# EAGLE library part TPS51396ARJER (library TPS51396ARJER)
Buck Switching Regulator IC Positive Adjustable 0.6V 1 Output 8A 20-VFQFN Exposed Pad Source: Datasheet <https://www.ti.com/lit/ds/symlink/tps51396a.pdf?HQS=dis-mous-null-mousermode-dsf-pf-null-wwe&ts=1662566370253&ref_url=https%3A%2F%2Fwww.mouser.in%2F>
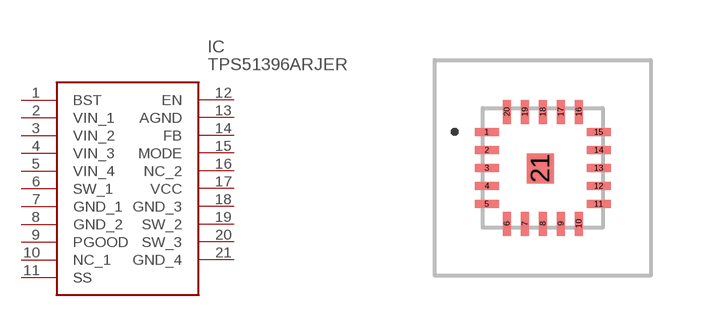
[diagram p0: symbol with the pads of TPS51396ARJER; footprint TPS51396ARJER]

Designator prefix IC

## TPS51396ARJER (Description: Buck Switching Regulator IC Positive Adjustable 0.6V 1 Output 8A 20-VFQFN Exposed Pad; Height: 1mm; Manufacturer_Name: Texas Instruments; Manufacturer_Part_Number: TPS51396ARJER; Mouser_Part_Number: 595-TPS51396ARJER; Mouser_Price-Stock: https://www.mouser.co.uk/ProductDetail/Texas-Instruments/TPS51396ARJER?qs=GBLSl2AkirtKr8QWcQ0Vig%3D%3D)  [TPS51396ARJER]
1  BST
2  VIN_1
3  VIN_2
4  VIN_3
5  VIN_4
6  SW_1
7  GND_1
8  GND_2
9  PGOOD
10  NC_1
11  SS
12  EN
13  AGND
14  FB
15  MODE
16  NC_2
17  VCC
18  GND_3
19  SW_2
20  SW_3
21  GND_4

## Footprint TPS51396ARJER (pad centres in mm)
RJE0020A_2022
smd 0.6 x 0.2: 1 -1.4,0.9; 2 -1.4,0.45; 3 -1.4,0; 4 -1.4,-0.45; 5 -1.4,-0.9; 11 1.4,-0.9; 12 1.4,-0.45; 13 1.4,0; 14 1.4,0.45; 15 1.4,0.9
smd 0.2 x 0.6: 6 -0.9,-1.4; 7 -0.45,-1.4; 8 0,-1.4; 9 0.45,-1.4; 10 0.9,-1.4; 16 0.9,1.4; 17 0.45,1.4; 18 0,1.4; 19 -0.45,1.4; 20 -0.9,1.4
smd 0.675 x 0.76: 21 -0.06,-0.018